# Altium schematic symbol library Funk.SchLib: 35 symbols
Pins are listed as number, name and electrical type; pins without a type are passive.

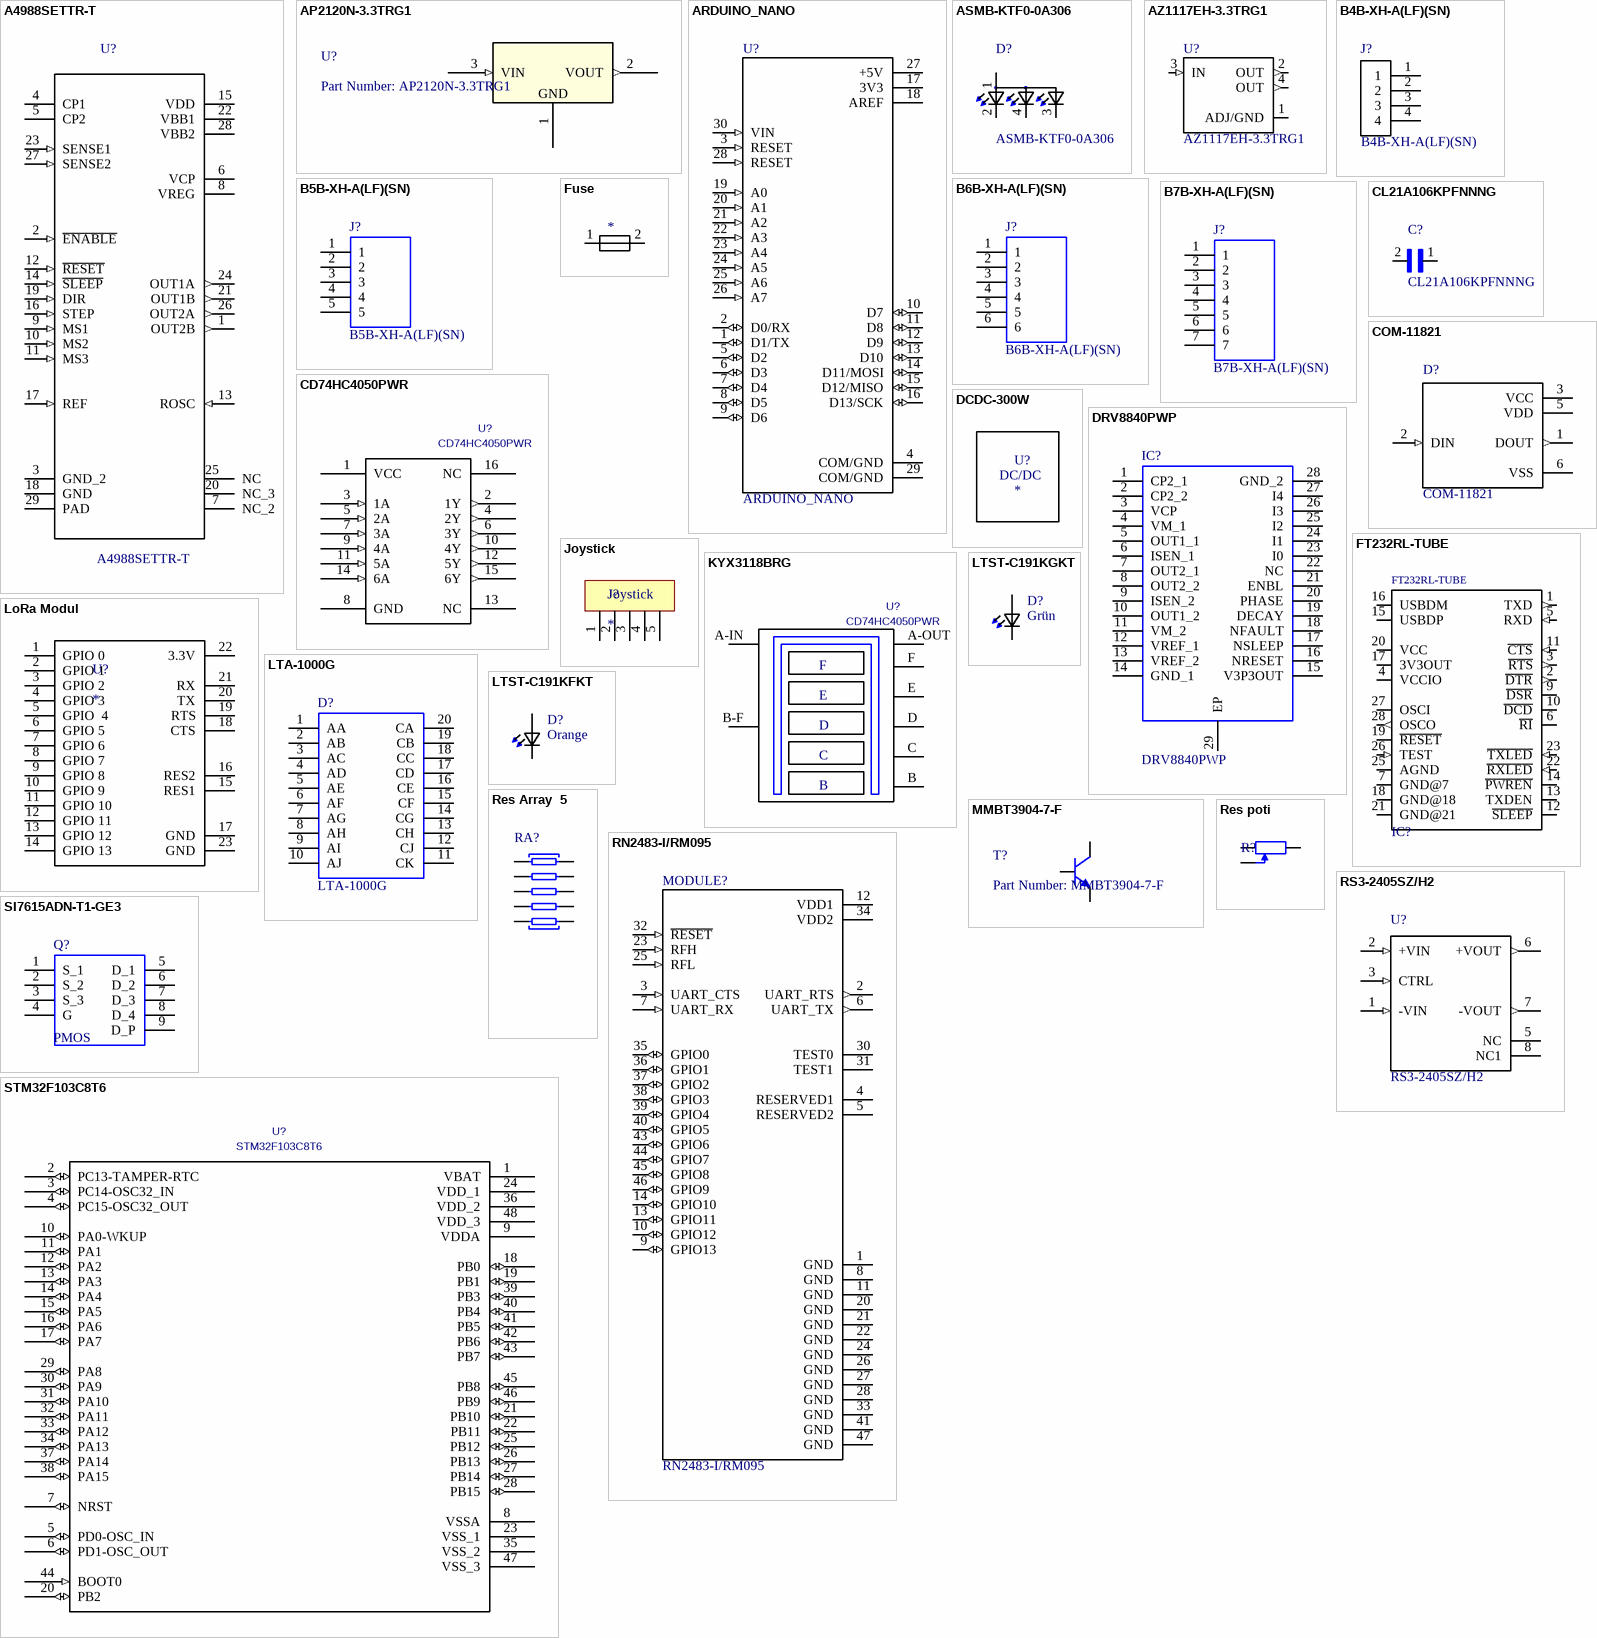
[diagram p0: symbols A4988SETTR-T to STM32F103C8T6]

## A4988SETTR-T
designator U?
DMOS Microstepping Driver with Translator and Overcurrent Protection; MF: Allegro; Digi-Key_Part_Number: 620-1343-1-ND; Package: QFN-28 Allegro MicroSystems LLC; MP: A4988SETTR-T; Digi-Key_Purchase_URL: https://www.digikey.ch/product-detail/en/allegro-microsystems/A4988SETTR-T/620-1343-1-ND/2238004?utm_source=snapeda&utm_medium=aggregator&utm_campaign=symbol; SnapEDA_Link: https://www.snapeda.com/parts/A4988SETTR-T/Allegro%20Industries/view-part/46276/?ref=snap; Value: *
footprint *QFN50P500X500X100-29N
pins: 1 OUT2B (out), 2 ~{ENABLE} (in), 3 GND_2, 4 CP1, 5 CP2, 6 VCP, 7 NC_2, 8 VREG, 9 MS1 (in), 10 MS2 (in), 11 MS3 (in), 12 ~{RESET} (in), 13 ROSC (in), 14 ~{SLEEP} (in), 15 VDD (power), 16 STEP (in), 17 REF (in), 18 GND, 19 DIR (in), 20 NC_3, 21 OUT1B (out), 22 VBB1 (power), 23 SENSE1 (in), 24 OUT1A (out), 25 NC, 26 OUT2A (out), 27 SENSE2 (in), 28 VBB2 (power), 29 PAD

## AP2120N-3.3TRG1
designator U?, comment Part Number: AP2120N-3.3TRG1
3.3V Voltage Regulator; Vendor: Diodes Inc; Built_By: EMA_UL_Team; Manufacturer_Part_Number: AP2120N-3.3TRG1; Copyright: Copyright (C) 2018 Accelerated Designs. All rights reserved; RefDes: RefDes; Type: DEV; Value: Value
footprint SOT-23-M
pins: 1 GND (power), 2 VOUT (out), 3 VIN (in)

## ARDUINO_NANO
designator U?
Dev.kit: Arduino; UART; ICSP, USB B mini, pin strips; MP: ARDUINO NANO; Digi-Key_Purchase_URL: *; Digi-Key_Part_Number: *; MF: Arduino; Package: None; SnapEDA_Link: https://www.snapeda.com/parts/ARDUINO%20NANO/Arduino/view-part/?ref=snap; Value: *
footprint *SHIELD_ARDUINO_NANO
pins: 1 D1/TX (io), 2 D0/RX (io), 3 RESET (in), 4 COM/GND (power), 5 D2 (io), 6 D3 (io), 7 D4 (io), 8 D5 (io), 9 D6 (io), 10 D7 (io), 11 D8 (io), 12 D9 (io), 13 D10 (io), 14 D11/MOSI (io), 15 D12/MISO (io), 16 D13/SCK (io), 17 3V3 (power), 18 AREF (power), 19 A0 (in), 20 A1 (in), 21 A2 (in), 22 A3 (in), 23 A4 (in), 24 A5 (in), 25 A6 (in), 26 A7 (in), 27 +5V (power), 28 RESET (in), 29 COM/GND (power), 30 VIN (in)

## ASMB-KTF0-0A306
designator D?
2220 Tricolor PLCC4 Surface Mount LED; MF: Broadcom Limited; Package: PLCC-4 Broadcom; MP: ASMB-KTF0-0A306; Price: None; Availability: Unavailable; SnapEDA_Link: https://www.snapeda.com/parts/ASMB-KTF0-0A306/Broadcom%20Limited/view-part/?ref=snap; Value: *
footprint *PLCC-4
pins: 1 A, 2 CRED, 3 CGREEN, 4 CBLUE

## AZ1117EH-3.3TRG1
designator U?
Ldo.Vreg Pos 3, 3v 1a Sot223; MF: Diodes Inc.; Package: SOT-223 Diodes Inc.; Digi-Key_Purchase_URL: https://www.digikey.ch/product-detail/en/diodes-incorporated/AZ1117EH-3.3TRG1/AZ1117EH-3.3TRG1DICT-ND/5001336?utm_source=snapeda&utm_medium=aggregator&utm_campaign=symbol; MP: AZ1117EH-3.3TRG1; SnapEDA_Link: https://www.snapeda.com/parts/AZ1117EH-3.3TRG1/Diodes%20Inc./view-part/?ref=snap; Digi-Key_Part_Number: AZ1117EH-3.3TRG1DICT-ND; Value: *
footprint *SOT230P700X180-4N
pins: 1 ADJ/GND (power), 2 OUT (out), 3 IN (in), 4 OUT (out)

## B4B-XH-A(LF)(SN)
designator J?
B4B-XH-A_LF__SN_; MF: JST Sales; Digi-Key_Part_Number: 455-2249-ND; Package: None; SnapEDA_Link: https://www.snapeda.com/parts/B4B-XH-A%28LF%29%28SN%29/JST%20Sales%20America%20Inc./view-part/?ref=snap; Digi-Key_Purchase_URL: https://www.digikey.com/product-detail/en/jst-sales-america-inc/B4B-XH-A_LF__SN_/455-2249-ND/1651047?utm_source=snapeda&utm_medium=aggregator&utm_campaign=symbol; MP: B4B-XH-A_LF__SN_; Value: *
footprint *JST_B4B-XH-A(LF)(SN)
pins: 1, 2, 3, 4

## B5B-XH-A(LF)(SN)
designator J?
XH connector, 5 way; Manufacturer_Name: JST (JAPAN SOLDERLESS TERMINALS); Geometry.Height: 7mm; Manufacturer_Part_Number: B5B-XH-A(LF)(SN); Mouser Part Number: *; Mouser Price/Stock: *; RS Part Number: 8201560P; RS Price/Stock: http://uk.rs-online.com/web/p/products/8201560P; Datasheet Link: http://www.jst-mfg.com/product/pdf/eng/eXH.pdf
footprint SHDR5W64P0X250_1X5_1490X575X700P
pins: 1, 2, 3, 4, 5

## B6B-XH-A(LF)(SN)
designator J?
XH connector, 6 way; Manufacturer_Name: JST (JAPAN SOLDERLESS TERMINALS); Geometry.Height: 7mm; Manufacturer_Part_Number: B6B-XH-A(LF)(SN); Mouser Part Number: *; Mouser Price/Stock: *; RS Part Number: 8201563P; RS Price/Stock: http://uk.rs-online.com/web/p/products/8201563P; Datasheet Link: http://www.jst-mfg.com/product/pdf/eng/eXH.pdf
footprint SHDR6W64P0X250_1X6_1740X575X700P
pins: 1, 2, 3, 4, 5, 6

## B7B-XH-A(LF)(SN)
designator J?
XH connector, 7 way; Manufacturer_Name: JST (JAPAN SOLDERLESS TERMINALS); Geometry.Height: 7mm; Manufacturer_Part_Number: B7B-XH-A(LF)(SN); Mouser Part Number: *; Mouser Price/Stock: *; RS Part Number: 8201567P; RS Price/Stock: http://uk.rs-online.com/web/p/products/8201567P; Datasheet Link: http://www.jst-mfg.com/product/pdf/eng/eXH.pdf
footprint SHDR7W64P0X250_1X7_1990X575X700P
pins: 1, 2, 3, 4, 5, 6, 7

## CD74HC4050PWR
designator U?
Manufacturer: Texas Instruments; C: Copyright (C) 2015 Accelerated Designs. All rights reserved; Built_By: EMA_UL_Team; Value: CD74HC4050PWR; Vendor: Vendor; Manufacturer_Part_Number: CD74HC4050PWR
footprint PW16
pins: 1 VCC (power), 2 1Y (out), 3 1A (in), 4 2Y (out), 5 2A (in), 6 3Y (out), 7 3A (in), 8 GND (power), 9 4A (in), 10 4Y (out), 11 5A (in), 12 5Y (out), 13 NC, 14 6A (in), 15 6Y (out), 16 NC

## CL21A106KPFNNNG
designator C?
MF: Samsung Electro-Mechanics; Digi-Key_Part_Number: 1276-6456-1-ND; Digi-Key_Purchase_URL: https://www.digikey.com/product-detail/en/samsung-electro-mechanics/CL21A106KPFNNNG/1276-6456-1-ND/5958084?utm_source=snapeda&utm_medium=aggregator&utm_campaign=symbol; SnapEDA_Link: https://www.snapeda.com/parts/CL21A106KPFNNNG/Samsung%20Electro-Mechanics/view-part/?ref=snap; MP: CL21A106KPFNNNG; Package: 0805 Samsung; Value: *
footprint *CAPC2012X135N
pins: 1, 2

## COM-11821
designator D?
Led - Smd Rgb _Ws2812_; MF: SparkFun Electronics; Digi-Key_Purchase_URL: https://www.digikey.com/product-detail/en/sparkfun-electronics/COM-11821/1568-1800-ND/6163706?utm_source=snapeda&utm_medium=aggregator&utm_campaign=symbol; Digi-Key_Part_Number: 1568-1800-ND; Package: DIP-18 SparkFun Electronics; SnapEDA_Link: https://www.snapeda.com/parts/COM-11821/SparkFun%20Electronics/view-part/?ref=snap; MP: COM-11821; Value: *
footprint *LED_COM-11821
pins: 1 DOUT (out), 2 DIN (in), 3 VCC (power), 5 VDD (power), 6 VSS (power)

## DCDC-300W
designator U?
6-36V 20A
footprint DCDC-300W (6-36V 20A)
text: DC/DC

## DRV8840PWP
designator IC?
Texas Instruments DRV8840PWP, Full Bridge Motor Driver, DC Motor Driver, 28-Pin HTSSOP; Geometry.Height: 1.2mm; Mouser Part Number: 595-DRV8840PWP; Mouser Price/Stock: https://www.mouser.com/Search/Refine.aspx?Keyword=595-DRV8840PWP; Manufacturer_Name: Texas Instruments; Manufacturer_Part_Number: DRV8840PWP; Datasheet Link: http://www.ti.com/lit/ds/symlink/drv8840.pdf
footprint SOP65P640X120-29N
pins: 1 CP2_1, 2 CP2_2, 3 VCP, 4 VM_1, 5 OUT1_1, 6 ISEN_1, 7 OUT2_1, 8 OUT2_2, 9 ISEN_2, 10 OUT1_2, 11 VM_2, 12 VREF_1, 13 VREF_2, 14 GND_1, 15 V3P3OUT, 16 NRESET, 17 NSLEEP, 18 NFAULT, 19 DECAY, 20 PHASE, 21 ENBL, 22 NC, 23 I0, 24 I1, 25 I2, 26 I3, 27 I4, 28 GND_2, 29 EP

## FT232RL-TUBE
designator IC?  (value not drawn)
USB-to-UART 1-CH 256byte FIFO 5V 28-Pin SSOP Tube; MF: FTDI,; MP: FT232RL-TUBE; Digi-Key_Part_Number: 768-1306-ND; Package: SSOP-28 FTDI; Digi-Key_Purchase_URL: https://www.digikey.com/product-detail/en/ftdi-future-technology-devices-international-ltd/FT232RL-TUBE/768-1306-ND/4006920?utm_source=snapeda&utm_medium=aggregator&utm_campaign=symbol; SnapEDA_Link: https://www.snapeda.com/parts/FT232RL-TUBE/FTDI%2C%20Future%20Technology%20Devices%20International%20Ltd/view-part/?ref=snap; Value: *
footprint *SSOP28-LD
pins: 1 TXD (out), 2 ~{DTR} (out), 3 ~{RTS} (out), 4 VCCIO (power), 5 RXD (in), 6 ~{RI}, 7 GND@7 (power), 9 ~{DSR}, 10 ~{DCD}, 11 ~{CTS} (in), 12 ~{SLEEP}, 13 TXDEN, 14 ~{PWREN}, 15 USBDP (io), 16 USBDM (io), 17 3V3OUT (power), 18 GND@18 (power), 19 ~{RESET}, 20 VCC (power), 21 GND@21 (power), 22 ~{RXLED} (in), 23 ~{TXLED} (in), 25 AGND (power), 26 TEST (in), 27 OSCI, 28 OSCO (out)

## Fuse
designator *  (value not drawn)
footprint FUSE-3586KTR
pins: 1, 2

## Joystick
designator J?
footprint Joystick
pins: 1, 2, 3, 4, 5

## KYX3118BRG
designator U?, comment CD74HC4050PWR
Manufacturer: Texas Instruments; C: Copyright (C) 2015 Accelerated Designs. All rights reserved; Built_By: EMA_UL_Team; Value: CD74HC4050PWR; Vendor: Vendor; Manufacturer_Part_Number: CD74HC4050PWR
footprint KYX3118BRG
pins: A-IN 8, A-OUT 1, B 2, B-F 7, C 3, D 4, E 5, F 6

## LoRa Modul
designator U?
footprint LoRA
footprint LoRA - w/o holes
pins: 1 GPIO 0, 2 GPIO 1, 3 GPIO 2, 4 GPIO 3, 5 GPIO  4, 6 GPIO 5, 7 GPIO 6, 8 GPIO 7, 9 GPIO 8, 10 GPIO 9, 11 GPIO 10, 12 GPIO 11, 13 GPIO 12, 14 GPIO 13, 15 RES1, 16 RES2, 17 GND, 18 CTS, 19 RTS, 20 TX, 21 RX, 22 3.3V, 23 GND

## LTA-1000G
designator D?
LED Uni-Color Green 565nm 20-Pin PDIP; Manufacturer_Name: Lite-On; Geometry.Height: 8.25mm; Manufacturer_Part_Number: LTA-1000G; Mouser Part Number: 859-LTA-1000G; Mouser Price/Stock: https://www.mouser.com/Search/Refine.aspx?Keyword=859-LTA-1000G; RS Part Number: *; RS Price/Stock: *; Datasheet Link: https://optoelectronics.liteon.com/upload/download/DS-30-92-0809/A1000G.pdf
footprint DIPS762W50P254L2527H825Q20N
pins: 1 AA, 2 AB, 3 AC, 4 AD, 5 AE, 6 AF, 7 AG, 8 AH, 9 AI, 10 AJ, 11 CK, 12 CJ, 13 CH, 14 CG, 15 CF, 16 CE, 17 CD, 18 CC, 19 CB, 20 CA

## LTST-C191KFKT
designator D?, comment Orange
/ LED; SMD; 0603; orange; 45-90mcd; 1.6x0.8x0.55mm; 130Â°; 2Ã·2.4V; 20mA /; MP: LTST-C191KFKT; MF: Lite-On Inc.; Digi-Key_Purchase_URL: https://www.digikey.com/product-detail/en/lite-on-inc/LTST-C191KFKT/160-1445-1-ND/386832?utm_source=snapeda&utm_medium=aggregator&utm_campaign=symbol; SnapEDA_Link: https://www.snapeda.com/parts/LTST-C191KFKT/Lite-On%20Inc./view-part/?ref=snap; Digi-Key_Part_Number: 160-1445-1-ND; Package: 0603 Lite-On; Value: *
footprint *0603
pins: 1 K2, 2 A2

## LTST-C191KGKT
designator D?, comment Grün
/ LED; SMD; 0603; grün; 35mcd; 1.6x0.8x0.55mm; 130Â°; 2Ã·2.V; 20mA /; MP: LTST-C191KGKT; MF: Lite-On Inc.; Digi-Key_Purchase_URL: https://www.digikey.ch/product-detail/de/lite-on-inc/LTST-C191KGKT/160-1446-1-ND/386834; SnapEDA_Link: https://www.snapeda.com/parts/LTST-C191KFKT/Lite-On%20Inc./view-part/?ref=snap; Digi-Key_Part_Number: 160-1446-1-ND; Package: 0603 Lite-On; Value: *
footprint *0603
pins: 1 K2, 2 A2

## MMBT3904-7-F
designator T?, comment Part Number: MMBT3904-7-F
No Description Available; Vendor: Diodes Inc; Built_By: EMA_UL_Team; Type: DEV; Manufacturer_Part_Number: MMBT3904-7-F; Copyright: Copyright (C) 2018 Accelerated Designs. All rights reserved; RefDes: RefDes; Value: Value
footprint SOT-23-M
pins: 1 B, 2 E, 3 C

## Res Array  5
designator RA?
Isolated Resistor Network
footprint *SIP-10
pins: 1, 2, 3, 4, 5, 6, 7, 8, 9, 10

## Res poti
designator R?
Potentiometer
footprint *TRIM_3314J-1-202E
pins: 1, 2 TAP, 3

## RN2483-I/RM095
designator MODULE?
Sub-GHz Dual Band Long Range Transceiver LoRa Module; MF: Microchip; Availability: Unavailable; Package: None; SnapEDA_Link: https://www.snapeda.com/parts/RN2483-I/RM095/Microchip/view-part/?ref=snap; MP: RN2483-I/RM095; Price: None; Value: *
footprint *MICROCHIP_RN2483-I/RM095
pins: 1 GND, 2 UART_RTS (out), 3 UART_CTS (in), 4 RESERVED1, 5 RESERVED2, 6 UART_TX (out), 7 UART_RX (in), 8 GND, 9 GPIO13 (io), 10 GPIO12 (io), 11 GND, 12 VDD1 (power), 13 GPIO11 (io), 14 GPIO10 (io), 20 GND, 21 GND, 22 GND, 23 RFH (in), 24 GND, 25 RFL (in), 26 GND, 27 GND, 28 GND, 30 TEST0, 31 TEST1, 32 ~{RESET} (in), 33 GND, 34 VDD2 (power), 35 GPIO0 (io), 36 GPIO1 (io), 37 GPIO2 (io), 38 GPIO3 (io), 39 GPIO4 (io), 40 GPIO5 (io), 41 GND, 43 GPIO6 (io), 44 GPIO7 (io), 45 GPIO8 (io), 46 GPIO9 (io), 47 GND

## RS3-2405SZ/H2
designator U?
DC DC CONVERTER 5V 3W; MF: Recom Power; SnapEDA_Link: https://www.snapeda.com/parts/RS3-2405SZ/H2/Recom%20Power/view-part/?ref=snap; Digi-Key_Purchase_URL: https://www.digikey.com/product-detail/en/recom-power/RS3-2405SZ-H2/945-2884-ND/2321432?utm_source=snapeda&utm_medium=aggregator&utm_campaign=symbol; MP: RS3-2405SZ/H2; Package: None; Digi-Key_Part_Number: 945-2884-ND; Value: *
footprint *CONV_RS3-2405SZ/H2
pins: 1 -VIN (in), 2 +VIN (in), 3 CTRL (in), 5 NC, 6 +VOUT (out), 7 -VOUT (out), 8 NC1

## SI7615ADN-T1-GE3
designator Q?, comment PMOS
P-Channel MOSFET, 35 A, 20 V, 8-Pin PowerPAK 1212 Vishay; Manufacturer_Part_Number: SI7615ADN-T1-GE3; Allied_Number: 70459567; Manufacturer_Name: Vishay; Mouser Part Number: 78-SI7615ADN-T1-GE3; Mouser Price/Stock: https://www.mouser.com/Search/Refine.aspx?Keyword=78-SI7615ADN-T1-GE3; RS Part Number: 7879248; RS Price/Stock: https://uk.rs-online.com/web/p/products/7879248; Allied Price/Stock: https://www.alliedelec.com/siliconix-vishay-si7615adn-t1-ge3/70459567/; Datasheet Link: https://www.vishay.com/docs/62667/si7615adn.pdf
footprint SIS862DNT1GE3
pins: 1 S_1, 2 S_2, 3 S_3, 4 G, 5 D_1, 6 D_2, 7 D_3, 8 D_4, 9 D_P

## STM32F103C8T6
designator U?
C: Copyright (C) 2015 Accelerated Designs. All rights reserved; Vendor: STMicroelectronics; Built_By: EMA_UL_Team; Value: STM32F103C8T6; Manufacturer_Part_Number: STM32F103C8T6
footprint LQFP-48
pins: 1 VBAT (power), 2 PC13-TAMPER-RTC (io), 3 PC14-OSC32_IN (io), 4 PC15-OSC32_OUT (io), 5 PD0-OSC_IN (io), 6 PD1-OSC_OUT (io), 7 NRST (io), 8 VSSA (power), 9 VDDA (power), 10 PA0-WKUP (io), 11 PA1 (io), 12 PA2 (io), 13 PA3 (io), 14 PA4 (io), 15 PA5 (io), 16 PA6 (io), 17 PA7 (io), 18 PB0 (io), 19 PB1 (io), 20 PB2 (io), 21 PB10 (io), 22 PB11 (io), 23 VSS_1 (power), 24 VDD_1 (power), 25 PB12 (io), 26 PB13 (io), 27 PB14 (io), 28 PB15 (io), 29 PA8 (io), 30 PA9 (io), 31 PA10 (io), 32 PA11 (io), 33 PA12 (io), 34 PA13 (io), 35 VSS_2 (power), 36 VDD_2 (power), 37 PA14 (io), 38 PA15 (io), 39 PB3 (io), 40 PB4 (io), 41 PB5 (io), 42 PB6 (io), 43 PB7 (io), 44 BOOT0 (in), 45 PB8 (io), 46 PB9 (io), 47 VSS_3 (power), 48 VDD_3 (power)

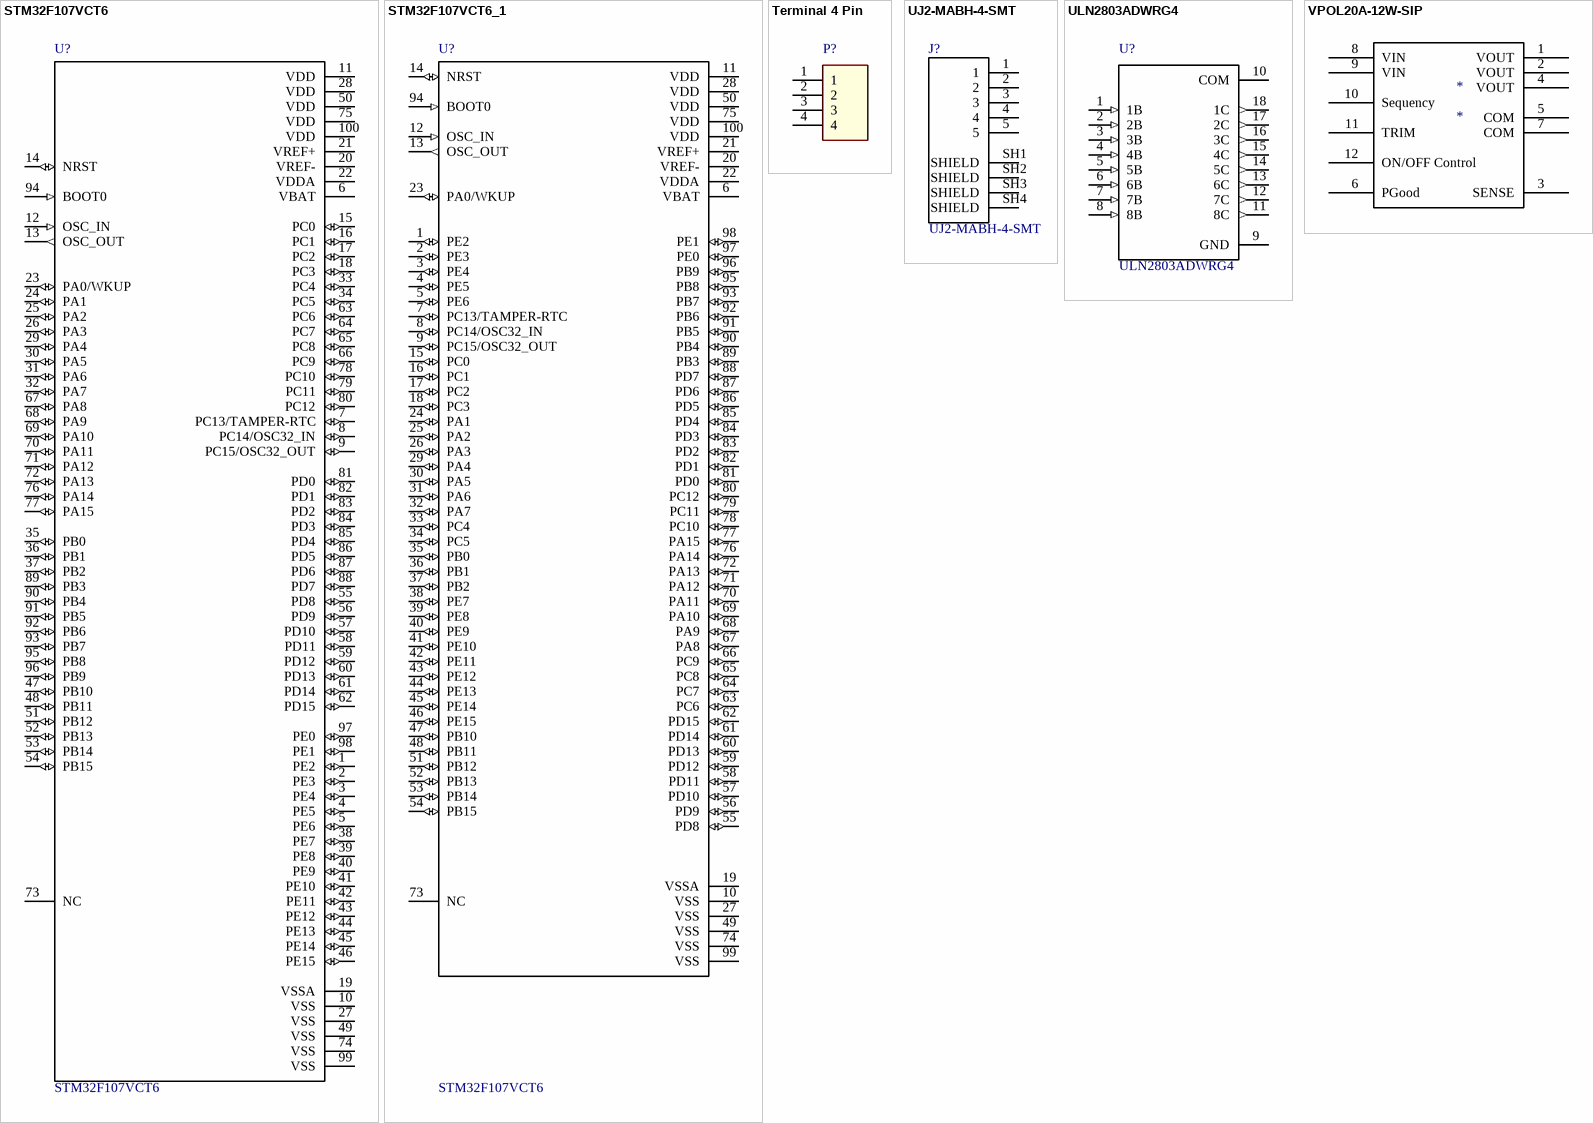
[diagram p1: symbols STM32F107VCT6 to VPOL20A-12W-SIP]

## STM32F107VCT6
designator U?
STM32 Series 32-bit 256 kB Flash 64 kB RAM ARM Based Microcontroller -LQFP-100; MF: STMicroelectronics; Price: None; Package: LQFP-100 STMicroelectronics; SnapEDA_Link: https://www.snapeda.com/parts/STM32F107VCT6/STMicroelectronics/view-part/?ref=snap; MP: STM32F107VCT6; Availability: Unavailable; Value: *
footprint *QFP50P1600X1600X160-100N
pins: 1 PE2 (io), 2 PE3 (io), 3 PE4 (io), 4 PE5 (io), 5 PE6 (io), 6 VBAT (power), 7 PC13/TAMPER-RTC (io), 8 PC14/OSC32_IN (io), 9 PC15/OSC32_OUT (io), 10 VSS (power), 11 VDD (power), 12 OSC_IN (in), 13 OSC_OUT (out), 14 NRST (io), 15 PC0 (io), 16 PC1 (io), 17 PC2 (io), 18 PC3 (io), 19 VSSA (power), 20 VREF- (power), 21 VREF+ (power), 22 VDDA (power), 23 PA0/WKUP (io), 24 PA1 (io), 25 PA2 (io), 26 PA3 (io), 27 VSS (power), 28 VDD (power), 29 PA4 (io), 30 PA5 (io), 31 PA6 (io), 32 PA7 (io), 33 PC4 (io), 34 PC5 (io), 35 PB0 (io), 36 PB1 (io), 37 PB2 (io), 38 PE7 (io), 39 PE8 (io), 40 PE9 (io), 41 PE10 (io), 42 PE11 (io), 43 PE12 (io), 44 PE13 (io), 45 PE14 (io), 46 PE15 (io), 47 PB10 (io), 48 PB11 (io), 49 VSS (power), 50 VDD (power), 51 PB12 (io), 52 PB13 (io), 53 PB14 (io), 54 PB15 (io), 55 PD8 (io), 56 PD9 (io), 57 PD10 (io), 58 PD11 (io), 59 PD12 (io), 60 PD13 (io), 61 PD14 (io), 62 PD15 (io), 63 PC6 (io), 64 PC7 (io), 65 PC8 (io), 66 PC9 (io), 67 PA8 (io), 68 PA9 (io), 69 PA10 (io), 70 PA11 (io), 71 PA12 (io), 72 PA13 (io), 73 NC, 74 VSS (power), 75 VDD (power), 76 PA14 (io), 77 PA15 (io), 78 PC10 (io), 79 PC11 (io), 80 PC12 (io), 81 PD0 (io), 82 PD1 (io), 83 PD2 (io), 84 PD3 (io), 85 PD4 (io), 86 PD5 (io), 87 PD6 (io), 88 PD7 (io), 89 PB3 (io), 90 PB4 (io), 91 PB5 (io), 92 PB6 (io), 93 PB7 (io), 94 BOOT0 (in), 95 PB8 (io), 96 PB9 (io), 97 PE0 (io), 98 PE1 (io), 99 VSS (power), 100 VDD (power)

## STM32F107VCT6_1
designator U?, comment STM32F107VCT6
STM32 Series 32-bit 256 kB Flash 64 kB RAM ARM Based Microcontroller -LQFP-100; MF: STMicroelectronics; Price: None; Package: LQFP-100 STMicroelectronics; SnapEDA_Link: https://www.snapeda.com/parts/STM32F107VCT6/STMicroelectronics/view-part/?ref=snap; MP: STM32F107VCT6; Availability: Unavailable; Value: *
footprint *QFP50P1600X1600X160-100N
pins: 1 PE2 (io), 2 PE3 (io), 3 PE4 (io), 4 PE5 (io), 5 PE6 (io), 6 VBAT (power), 7 PC13/TAMPER-RTC (io), 8 PC14/OSC32_IN (io), 9 PC15/OSC32_OUT (io), 10 VSS (power), 11 VDD (power), 12 OSC_IN (in), 13 OSC_OUT (out), 14 NRST (io), 15 PC0 (io), 16 PC1 (io), 17 PC2 (io), 18 PC3 (io), 19 VSSA (power), 20 VREF- (power), 21 VREF+ (power), 22 VDDA (power), 23 PA0/WKUP (io), 24 PA1 (io), 25 PA2 (io), 26 PA3 (io), 27 VSS (power), 28 VDD (power), 29 PA4 (io), 30 PA5 (io), 31 PA6 (io), 32 PA7 (io), 33 PC4 (io), 34 PC5 (io), 35 PB0 (io), 36 PB1 (io), 37 PB2 (io), 38 PE7 (io), 39 PE8 (io), 40 PE9 (io), 41 PE10 (io), 42 PE11 (io), 43 PE12 (io), 44 PE13 (io), 45 PE14 (io), 46 PE15 (io), 47 PB10 (io), 48 PB11 (io), 49 VSS (power), 50 VDD (power), 51 PB12 (io), 52 PB13 (io), 53 PB14 (io), 54 PB15 (io), 55 PD8 (io), 56 PD9 (io), 57 PD10 (io), 58 PD11 (io), 59 PD12 (io), 60 PD13 (io), 61 PD14 (io), 62 PD15 (io), 63 PC6 (io), 64 PC7 (io), 65 PC8 (io), 66 PC9 (io), 67 PA8 (io), 68 PA9 (io), 69 PA10 (io), 70 PA11 (io), 71 PA12 (io), 72 PA13 (io), 73 NC, 74 VSS (power), 75 VDD (power), 76 PA14 (io), 77 PA15 (io), 78 PC10 (io), 79 PC11 (io), 80 PC12 (io), 81 PD0 (io), 82 PD1 (io), 83 PD2 (io), 84 PD3 (io), 85 PD4 (io), 86 PD5 (io), 87 PD6 (io), 88 PD7 (io), 89 PB3 (io), 90 PB4 (io), 91 PB5 (io), 92 PB6 (io), 93 PB7 (io), 94 BOOT0 (in), 95 PB8 (io), 96 PB9 (io), 97 PE0 (io), 98 PE1 (io), 99 VSS (power), 100 VDD (power)

## Terminal 4 Pin
designator P?
Conn; Term Blk; Screw; 4: 3.5 mm; 26-16 AWG; 10 A; 160 V; Solder; 2.5 kV; PA; MP: 1751264; MF: Phoenix Contact; Digi-Key_Purchase_URL: https://www.digikey.com/product-detail/en/phoenix-contact/1751264/277-5744-ND/2511021?utm_source=snapeda&utm_medium=aggregator&utm_campaign=symbol; Package: None; SnapEDA_Link: https://www.snapeda.com/parts/1751264/Phoenix%20Contact/view-part/1231309/?ref=snap; Digi-Key_Part_Number: 277-5744-ND; Value: *
footprint *PHOENIX_1751264
pins: 1, 2, 3, 4

## UJ2-MABH-4-SMT
designator J?
Mini AB, USB 2.0, 1 A, Right Angle, Surface Mount _SMT_, USB Receptacle; MF: CUI Inc.; Digi-Key_Part_Number: 102-5890-1-ND; Package: None; Digi-Key_Purchase_URL: https://www.digikey.com/product-detail/en/cui-inc/UJ2-MABH-4-SMT-TR/102-5890-1-ND/9838992?utm_source=snapeda&utm_medium=aggregator&utm_campaign=symbol; CUI_purchase_URL: https://www.cui.com/product/interconnect/connectors/usb-connectors/uj2-mabh-smt-series?utm_source=snapeda.com&utm_medium=referral&utm_campaign=snapedaBOM; SnapEDA_Link: https://www.snapeda.com/parts/UJ2-MABH-4-SMT/CUI%20Inc./view-part/?ref=snap; MP: UJ2-MABH-4-SMT; Value: *
footprint *CUI_UJ2-MABH-4-SMT_UJ2-MABH-4-SMT(Primary)
pins: 1, 2, 3, 4, 5, SH1 SHIELD, SH2 SHIELD, SH3 SHIELD, SH4 SHIELD

## ULN2803ADWRG4
designator U?
Trans Darlington NPN 50V 0.5A 18-Pin SOIC T/R; MF: Texas Instruments; Digi-Key_Part_Number: 296-35964-1-ND; SnapEDA_Link: https://www.snapeda.com/parts/ULN2803ADWRG4/Texas%20Instruments/view-part/1177700/?ref=snap; Package: SOIC-18 Texas Instruments; MP: ULN2803ADWRG4; Digi-Key_Purchase_URL: https://www.digikey.com/product-detail/en/texas-instruments/ULN2803ADWRG4/296-35964-1-ND/4134939?utm_source=snapeda&utm_medium=aggregator&utm_campaign=symbol; Value: *
footprint *SOIC127P1030X265-18N
pins: 1 1B (in), 2 2B (in), 3 3B (in), 4 4B (in), 5 5B (in), 6 6B (in), 7 7B (in), 8 8B (in), 9 GND (power), 10 COM (power), 11 8C (out), 12 7C (out), 13 6C (out), 14 5C (out), 15 4C (out), 16 3C (out), 17 2C (out), 18 1C (out)

## VPOL20A-12W-SIP
designator *
DCDC, 5V 20A
footprint VPOL20A-12W-SIP
pins: 1 VOUT, 2 VOUT, 3 SENSE, 4 VOUT, 5 COM, 6 PGood, 7 COM, 8 VIN, 9 VIN, 10 Sequency, 11 TRIM, 12 ON/OFF Control